# Altium schematic symbol library Chips.SchLib: 170 symbols (part 2 of 2)
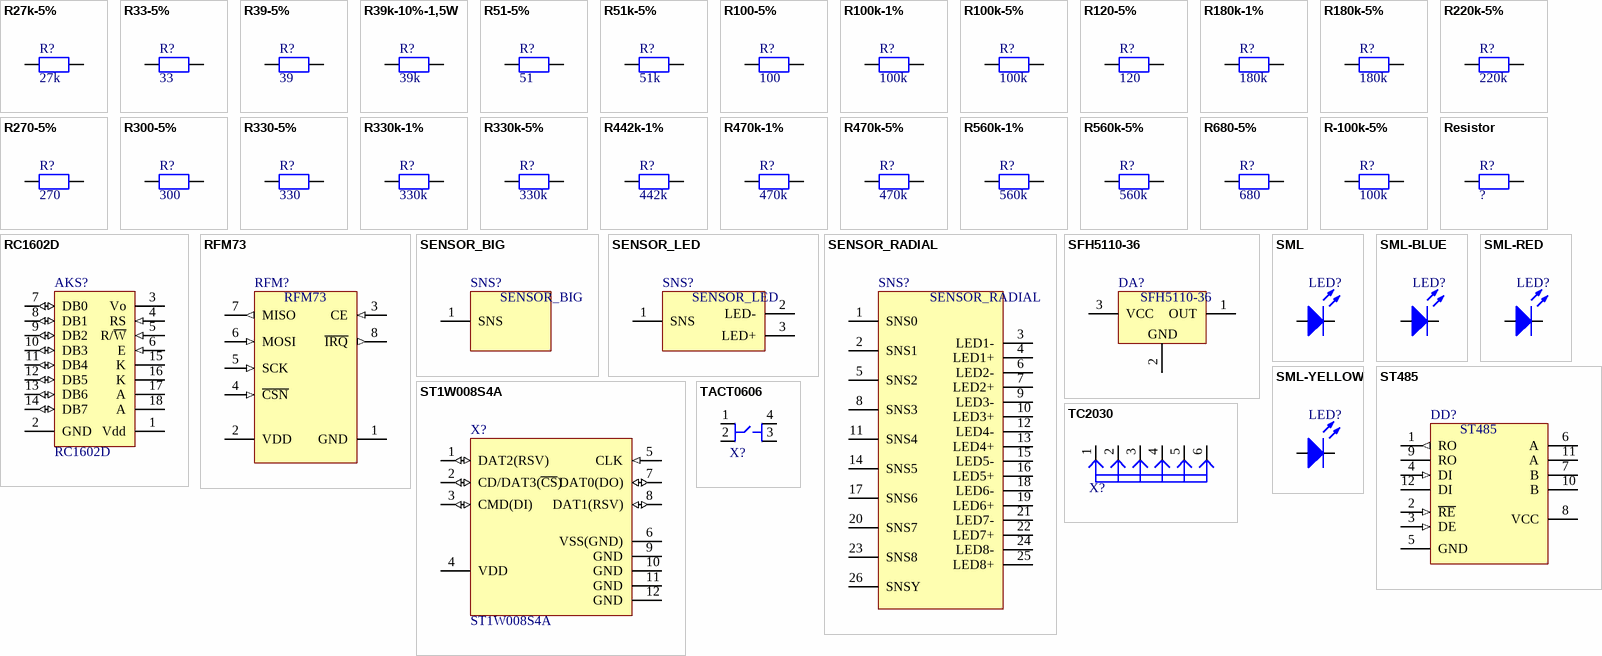
[diagram p5: symbols R27k-5% to TC2030]

## SENSOR_LED
designator SNS?
Sensor pad with LED highlighting; Name: SENSOR_LED; Type: Сенсорная площадка с подсветкой
footprint SENSOR_15MM_LED
footprint SENSOR_15MM_SMLED
footprint SENSOR_20MM_SMLED
pins: 1 SNS, 2 LED-, 3 LED+

## SENSOR_RADIAL
designator SNS?
Sensor radial pad with LED highlighting; Name: SENSOR_RADIAL; Type: Сенсорная радиальная площадка с подсветкой
footprint SENSOR_60MM_RADIAL
pins: 1 SNS0, 2 SNS1, 3 LED1-, 4 LED1+, 5 SNS2, 6 LED2-, 7 LED2+, 8 SNS3, 9 LED3-, 10 LED3+, 11 SNS4, 12 LED4-, 13 LED4+, 14 SNS5, 15 LED5-, 16 LED5+, 17 SNS6, 18 LED6-, 19 LED6+, 20 SNS7, 21 LED7-, 22 LED7+, 23 SNS8, 24 LED8-, 25 LED8+, 26 SNSY

## SFH5110-36
designator DA?
IR-Receiver; Value: 36kHz; Name: SFH5110-36; Type: ИК-приемник
footprint SFH5110 (IR-Receiver)
pins: 1 OUT, 2 GND (power), 3 VCC (power)

## SML
designator LED?, comment SML-?  (value not drawn)
SML; Type: SMD светодиод; Color: ?; Name: SML-?
footprint SML-0805 (SM LED)
footprint SML-1206 (SM LED)
footprint SML-1206-HOLE (SM LED throw hole)
pins: 1 A, 2 K

## SML-BLUE
designator LED?  (value not drawn)
Type: SMD светодиод; Color: BLUE; Name: SML-BLUE
footprint SML-0805 (SM LED)
footprint SML-1206 (SM LED)
footprint SML-1206-HOLE (SM LED throw hole)
pins: 1 A, 2 K

## SML-RED
designator LED?  (value not drawn)
Type: SMD светодиод; Color: RED; Name: SML-RED
footprint SML-0805 (SM LED)
footprint SML-1206 (SM LED)
footprint SML-1206-HOLE (SM LED throw hole)
pins: 1 A, 2 K

## SML-YELLOW
designator LED?  (value not drawn)
Type: SMD светодиод; Color: YELLOW; Name: SML-YELLOW
footprint SML-0805 (SM LED)
footprint SML-1206 (SM LED)
footprint SML-1206-HOLE (SM LED throw hole)
pins: 1 A, 2 K

## ST1W008S4A
designator X?
Name: ST1W008S4A; Type: Держатель microSD карт
footprint ST1W008S4A (Trans Flash (MicroSD) memory card connector.)
pins: 1 DAT2(RSV) (io), 2 CD/DAT3(~{CS}) (io), 3 CMD(DI) (io), 4 VDD (power), 5 CLK (in), 6 VSS(GND) (power), 7 DAT0(DO) (io), 8 DAT1(RSV) (io), 9 GND (power), 10 GND (power), 11 GND (power), 12 GND (power)

## ST485
designator DD?
Low power RS-485/RS-422 transceiver; Name: ST485; Type: Драйвер RS-485/RS-422 интерфейсов
footprint 8S1_N (SOIC, 8-Leads, Body 4.9x3.9mm, Pitch 1.27mm, IPC Medium Density)
footprint 8S1_N_ST485_JUMP (SOIC, 8-Leads, Body 4.9x3.9mm, Pitch 1.27mm, IPC Medium Density)
pins: 1 RO (out), 2 ~{RE} (in), 3 DE (in), 4 DI (in), 5 GND (power), 6 A, 7 B, 8 VCC (power), 9 RO, 10 B, 11 A, 12 DI

## TACT0606
designator X?  (value not drawn)
Tact switch 6x6mm; Name: TACT0606; Type: Кнопка
footprint TACT0606 (TACT switch 6x6mm)
pins: 1, 2, 3, 4

## TC2030
designator X?  (value not drawn)
Tag-Connect cable place; Name: TC2030; Type: Площадка для пружинного разъема
footprint TC2030-MCP
footprint TC2030-MCP-NL
pins: 1, 2, 3, 4, 5, 6

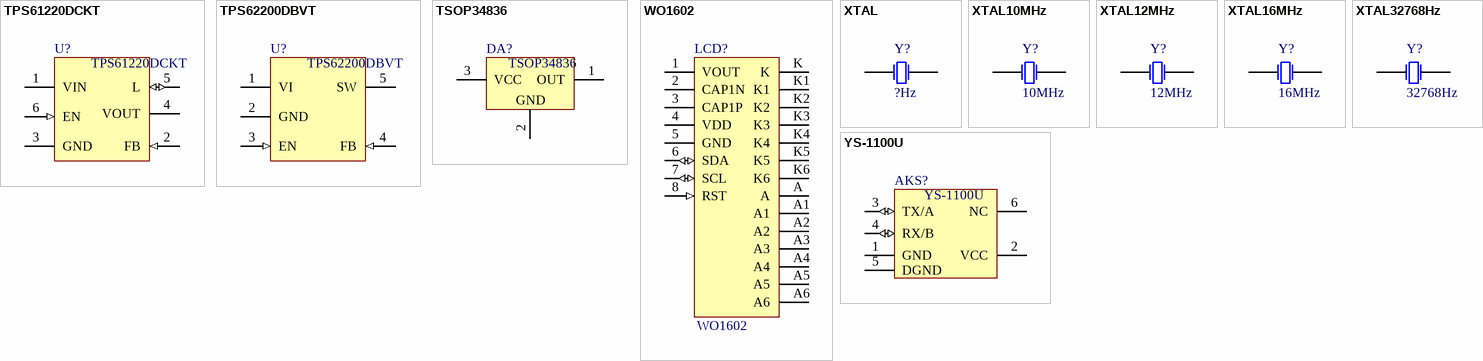
[diagram p4: symbols TPS61220DCKT to YS-1100U]

## TPS61220DCKT
designator U?
Low input voltage step-up DC-DC convertor, 6-pin SC70; Name: TPS61220DCKT; Type: DC-DC конвертор повышающий
footprint SC70-6-N (SC70-6, 6-Leads, Body 2.15x1.40mm, Pitch 0.65mm, Lead Span 2.4mm, IPC Medium Density)
pins: 1 VIN (power), 2 FB (in), 3 GND (power), 4 VOUT (power), 5 L (io), 6 EN (in)

## TPS62200DBVT
designator U?
High efficiency step-down DC-DC convertor, 5-pin SOT23; Name: TPS62200DBVT; Type: DC-DC конвертор понижающий
footprint 5ST1_N (SOT23-5, 6-Leads, Body 2.9x1.6mm, Pitch 0.95mm, Lead Span 2.7mm, IPC Medium Density)
pins: 1 VI (power), 2 GND (power), 3 EN (in), 4 FB (in), 5 SW (power)

## TSOP34836
designator DA?
IR-Receiver; Value: 36kHz; Name: TSOP34836; Type: ИК-приемник
footprint TSOP34836_SURFACE (IR-Receiver)
footprint TSOP34836 (IR-Receiver)
footprint TSOP34836-HOLE (IR-Receiver)
pins: 1 OUT, 2 GND (power), 3 VCC (power)

## WO1602
designator LCD?
LCD COG display 16x02; Name: WO1602; Type: LCD COG дисплей
footprint WO1602I (LCD COG display 16x02 VA(I)=40x10mm with backlight (ext VA(H)=51.5x12.2mm))
pins: 1 VOUT (power), 2 CAP1N (power), 3 CAP1P (power), 4 VDD (power), 5 GND (power), 6 SDA (io), 7 SCL (io), 8 RST (in), A (power), A1 (power), A2 (power), A3 (power), A4 (power), A5 (power), A6 (power), K (power), K1 (power), K2 (power), K3 (power), K4 (power), K5 (power), K6 (power)

## XTAL
designator Y?, comment value ?Hz  (hidden comment: XTAL?)
Crystal Oscillator; Name: XTAL?; Type: Кварц
footprint KX38 (Crystal, Thru-Hole; 2 Leads; Body 3.0 x 8.0 mm (Dia.xH))
footprint HC49 (Crystal, Thru-Hole; 2 Leads; Body 11.0 x 5.0 mm (Dia.xH))
pins: 1 OSC1, 2 OSC2

## XTAL10MHz
designator Y?  value 10MHz  (hidden comment: XTAL10MHz)
Crystal Oscillator 10MHz; Name: XTAL10MHz; Type: Кварц
footprint KX38 (Crystal, Thru-Hole; 2 Leads; Body 3.0 x 8.0 mm (Dia.xH))
footprint HC49 (Crystal, Thru-Hole; 2 Leads; Body 11.0 x 5.0 mm (Dia.xH))
pins: 1 OSC1, 2 OSC2

## XTAL12MHz
designator Y?  value 12MHz  (hidden comment: XTAL12MHz)
Crystal Oscillator 12MHz; Name: XTAL12MHz; Type: Кварц
footprint KX38 (Crystal, Thru-Hole; 2 Leads; Body 3.0 x 8.0 mm (Dia.xH))
footprint HC49 (Crystal, Thru-Hole; 2 Leads; Body 11.0 x 5.0 mm (Dia.xH))
pins: 1 OSC1, 2 OSC2

## XTAL16MHz
designator Y?  value 16MHz  (hidden comment: XTAL16MHz)
Crystal Oscillator 16MHz; Name: XTAL16MHz; Type: Кварц
footprint KX38 (Crystal, Thru-Hole; 2 Leads; Body 3.0 x 8.0 mm (Dia.xH))
footprint HC49 (Crystal, Thru-Hole; 2 Leads; Body 11.0 x 5.0 mm (Dia.xH))
pins: 1 OSC1, 2 OSC2

## XTAL32768Hz
designator Y?  value 32768Hz  (hidden comment: XTAL32768Hz)
Crystal Oscillator 32768Hz; Name: XTAL32768Hz; Type: Кварц
footprint KX38 (Crystal, Thru-Hole; 2 Leads; Body 3.0 x 8.0 mm (Dia.xH))
footprint HC49 (Crystal, Thru-Hole; 2 Leads; Body 11.0 x 5.0 mm (Dia.xH))
pins: 1 OSC1, 2 OSC2

## YS-1100U
designator AKS?
RF Data Transceiver; Name: YS-1100U; Type: Радиомодуль
footprint YS-1100U (YS-1100U; Pitch 2.54)
pins: 1 GND (power), 2 VCC (power), 3 TX/A (io), 4 RX/B (io), 5 DGND (power), 6 NC